# EAGLE library part POLOLU_DRV8838 (library AmandaEagleLibrary)
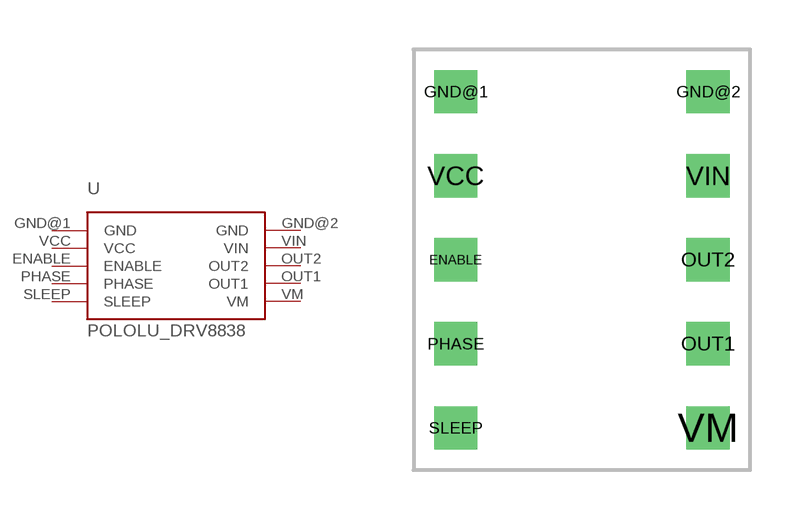
[diagram p3: symbol with the pads of POLOLU_DRV8838; footprint POLOLU_DRV8838]

Designator prefix -

## POLOLU_DRV8838-TH  [POLOLU_DRV8838]
ENABLE  ENABLE
GND@1  GND
GND@2  GND
OUT1  OUT1
OUT2  OUT2
PHASE  PHASE
SLEEP  SLEEP
VCC  VCC
VIN  VIN
VM  VM

## Footprint POLOLU_DRV8838 (pad centres in mm)
drill 0.8 square: ENABLE -3.81,0; GND@1 -3.81,5.08; GND@2 3.81,5.08; OUT1 3.81,-2.54; OUT2 3.81,0; PHASE -3.81,-2.54; SLEEP -3.81,-5.08; VCC -3.81,2.54; VIN 3.81,2.54; VM 3.81,-5.08